# EAGLE library part TS1101 (library ic-analog)
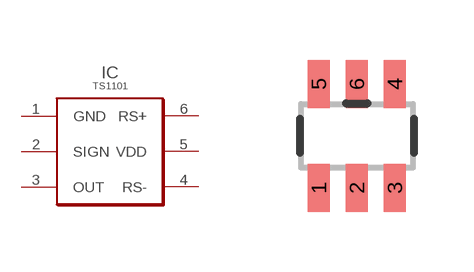
[diagram p0: symbol with the pads of SOT23-6; footprint SOT23-6]

Designator prefix IC

## TS1101  [SOT23-6]
1  GND  pas
2  SIGN  pas
3  OUT  pas
4  RS-  pas
5  VDD  pas
6  RS+  pas

## Footprint SOT23-6 (pad centres in mm)
Small Outline Transistor
smd 0.55 x 1.2: 1 -0.95,-1.3; 2 0,-1.3; 3 0.95,-1.3; 4 0.95,1.3; 5 -0.95,1.3; 6 0,1.3